# Altium schematic symbol library Resistors.SchLib: 6 symbols
Pins are listed as number, name and electrical type; pins without a type are passive.

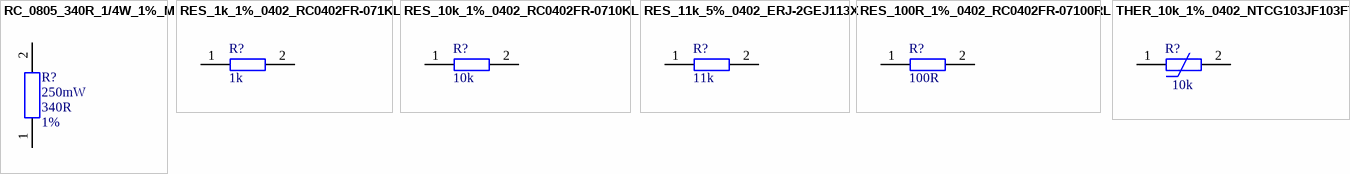
[diagram p0: symbols RC_0805_340R_1/4W_1%_M to THER_10k_1%_0402_NTCG103JF103FT1]

## RC_0805_340R_1/4W_1%_M
designator R?  value 340R  MAX POWER DISSIPATION: 250mW  TOLERANCE: 1%  (hidden comment: RC_0805_340R_1/4W_1%_M)
RESISTOR SMD 0805 340R 1/4W 1% METAL; MANUFACTURER: KOA; MANUFACTURER REFERENCE: RK73H2ATTD3400F; DRAW BY: ToV; LATEST REVISION NOTE: CREATION; DRAW DATE: 22/06/2021; LATEST REVISION DATE: 22/06/2021; MOUNTING: SMD; STATUS: ACTIVE; MATERIAL: METAL; PACKAGING: 0805; WEIGHT: -; TEMPERATURE COEFFICIENT: -; ROHS: -
footprint RES_0805
pins: 1, 2

## RES_1k_1%_0402_RC0402FR-071KL
designator R?  value 1k  (hidden comment: RES_1k_1%_0402_RC0402FR-071KL)
RESISTOR 1k 1% 0402 RC0402FR-071KL; MANUFACTURER: YAGEO; VOLTAGE RATING: 50V; TOLERANCE: 1%; MOUNTING: SMD; MANUFACTURER REFERENCE: RC0402FR-071KL; PACKAGING: 0402
footprint RES_0402
pins: 1, 2

## RES_10k_1%_0402_RC0402FR-0710KL
designator R?  value 10k  (hidden comment: RES_10k_1%_0402_RC0402FR-0710KL)
RESISTOR 10k 1% 0402 RC0402FR-0710KL; MANUFACTURER: YAGEO; VOLTAGE RATING: 50V; TOLERANCE: 1%; MOUNTING: SMD; MANUFACTURER REFERENCE: RC0402FR-0710KL; PACKAGING: 0402
footprint RES_0402
pins: 1, 2

## RES_11k_5%_0402_ERJ-2GEJ113X
designator R?  value 11k  (hidden comment: RES_11k_5%_0402_ERJ-2GEJ113X)
RESISTOR 11k 5% 0402 ERJ-2GEJ113X; MANUFACTURER: PANASONIC; VOLTAGE RATING: 50V; TOLERANCE: 5%; MOUNTING: SMD; MANUFACTURER REFERENCE: ERJ-2GEJ113X; PACKAGING: 0402
footprint RES_0402
pins: 1, 2

## RES_100R_1%_0402_RC0402FR-07100RL
designator R?  value 100R  (hidden comment: RES_100R_1%_0402_RC0402FR-07100RL)
RESISTOR 100R 1% 0402 RC0402FR-07100RL; MANUFACTURER: YAGEO; VOLTAGE RATING: 50V; TOLERANCE: 1%; MOUNTING: SMD; MANUFACTURER REFERENCE: RC0402FR-07100RL; PACKAGING: 0402
footprint RES_0402
pins: 1, 2

## THER_10k_1%_0402_NTCG103JF103FT1
designator R?  value 10k  (hidden comment: THER_10k_1%_0402_NTCG103JF103FT1)
THERMISTANCE 10k 1% 0402 NTCG103JF103FT1; MANUFACTURER: TDK; VOLTAGE RATING: 50V; TOLERANCE: 1%; MOUNTING: SMD; MANUFACTURER REFERENCE: NTCG103JF103FT1; PACKAGING: 0402
footprint RES_0402
pins: 1, 2